# EAGLE library part 74HC595_QFN (library tide_clock)
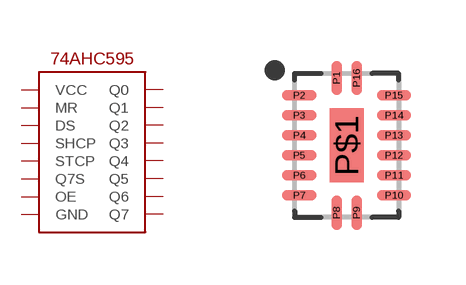
[diagram p16: symbol with the pads of QFN50P250X350X100-16; footprint QFN50P250X350X100-16]

Designator prefix -

## 74HC595_QFN  [QFN50P250X350X100-16]
P1  Q1
P2  Q2
P3  Q3
P4  Q4
P5  Q5
P6  Q6
P7  Q7
P8  GND
P9  Q7S
P10  MR
P11  SHCP
P12  STCP
P13  OE
P14  DS
P15  Q0
P16  VCC
P$1  GND

## Footprint QFN50P250X350X100-16 (pad centres in mm)
16-QFN, 0.50 mm pitch, 3.50 X 2.50 X 1.00 mm body 16-pin QFN package with 0.50 mm pitch with body size 3.50 X 2.50 X 1.00 mm
smd 0.264 x 0.86: P1 -0.25,1.685; P8 -0.25,-1.685; P9 0.25,-1.685; P16 0.25,1.685
smd 0.86 x 0.264: P2 -1.185,1.25; P3 -1.185,0.75; P4 -1.185,0.25; P5 -1.185,-0.25; P6 -1.185,-0.75; P7 -1.185,-1.25; P10 1.185,-1.25; P11 1.185,-0.75; P12 1.185,-0.25; P13 1.185,0.25; P14 1.185,0.75; P15 1.185,1.25
smd 0.85 x 1.85: P$1 0,0